# Altium footprint library Altium LCOGT PCB LIB.PCBLIB: 329 footprints (part 9 of 21)
Each footprint in its own frame and in the unit in brackets; x right, y up, seen from the top. Pads: shape width x height; smd on the part's side, far side on the other; paste and mask are expansions set on the pad; w line width, h text height; cw(c..) or ccw(c..) is an arc to the next point about the centre after c.
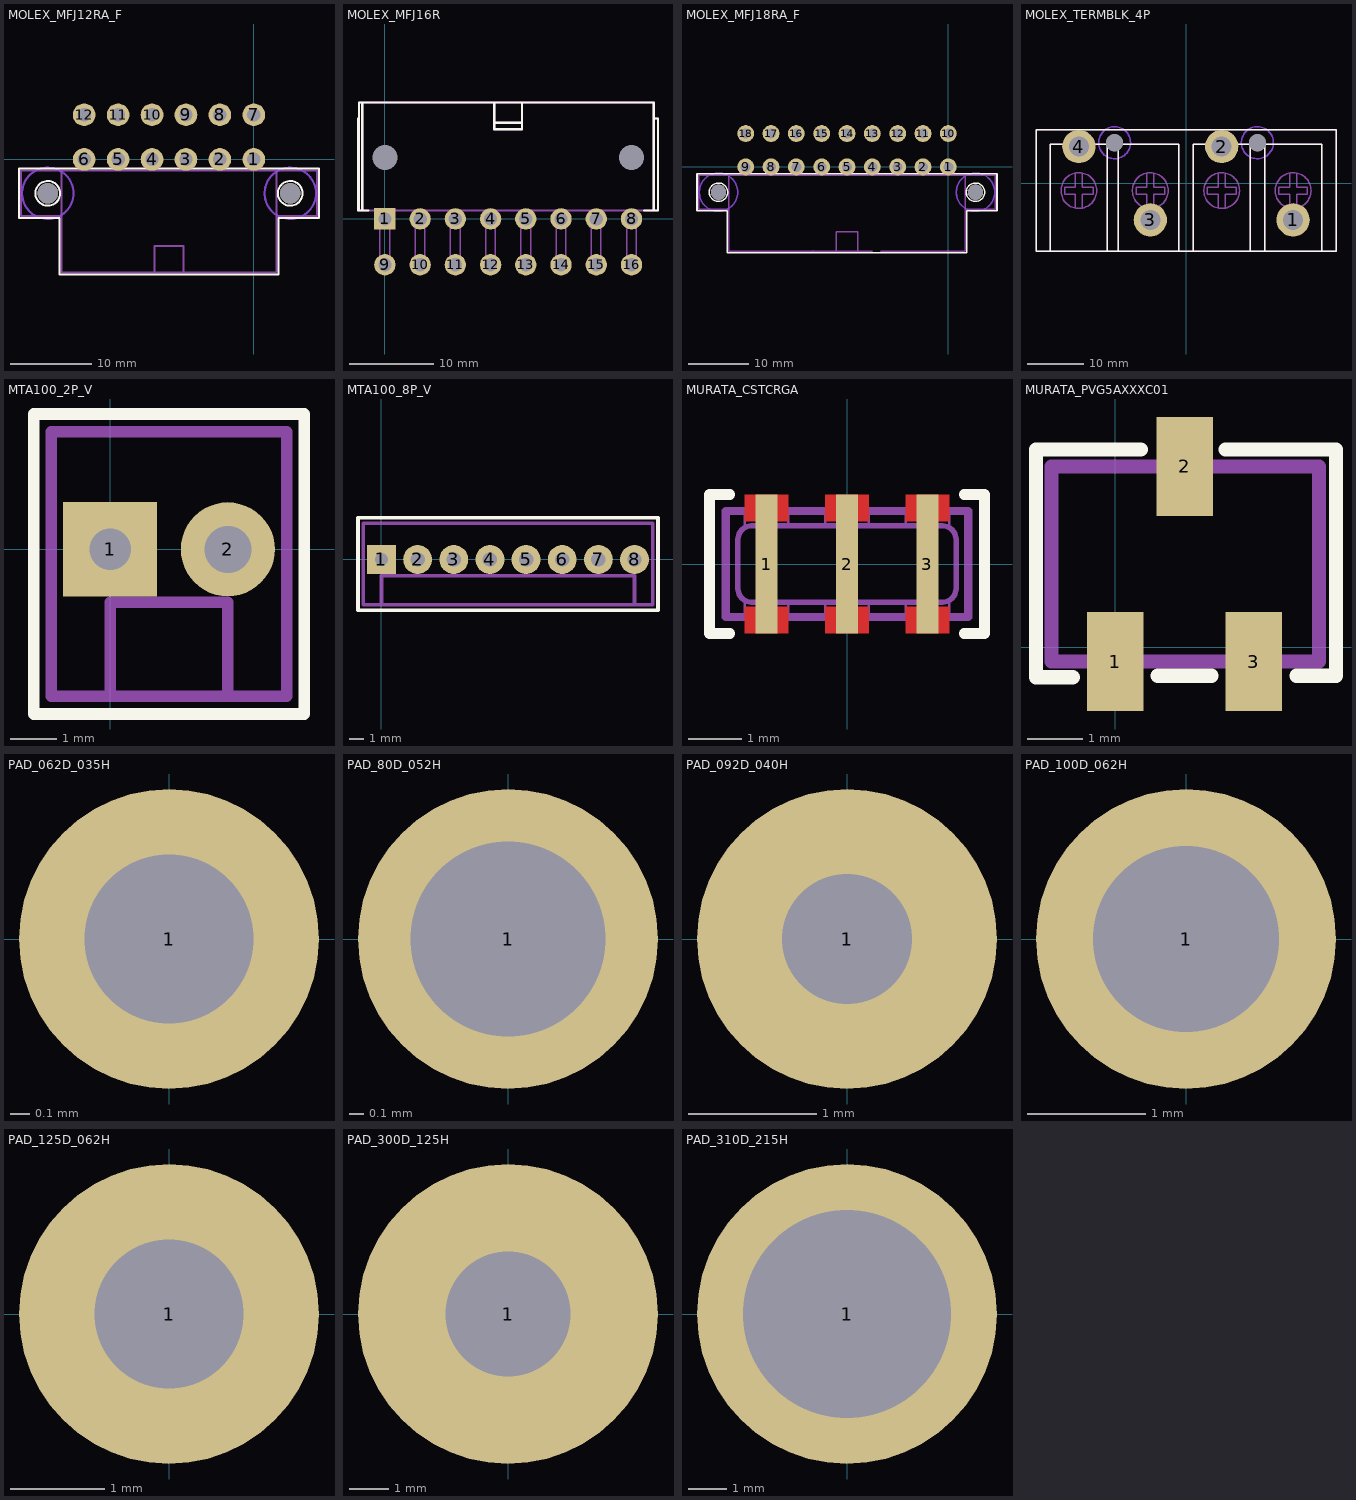
[diagram p8: the footprints below, top view; thin cyan lines are the x and y axes]

## MOLEX_MFJ12RA_F [mil] "Mini-Fit Jr., 12P, R/A, flanged, 39-29-X12X"
height 394
pads (14):
  round 110 hole 65: 1(0,0) 2(-165,0) 3(-330,0) 4(-495,0) 5(-660,0) 6(-825,0) 7(0,217) 8(-165,217) 9(-330,217) 10(-495,217) 11(-660,217) 12(-825,217)
  round 100 hole 100 unplated: ""(-1002,-165) ""(177,-165)
BottomLayer keep-out:
  circle w10: c-1002,-165 r125
  circle w10: c177,-165 r125
TopOverlay:
  circle w10: c177,-165 r60
  circle w10: c-1002,-165 r60
  lines w10: -647,-44 317,-44 317,-286 120,-286 120,-560 -450,-560 ; -375,-560 -945,-560 -945,-286 -1142,-286 -1142,-44 -178,-44
Mechanical3:
  lines w10: -935,-276 -1132,-276 -1132,-54 -935,-54 ; -482.5,-550 -482.5,-421 -342.5,-421 -342.5,-550 ; -440,-550 0,-550 106,-550 110,-546 110,-54 ; -440,-54 110,-54 ; -389,-550 -495,-550 -935,-550 -935,-54 ; -385,-54 -935,-54 ; 110,-276 307,-276 307,-54 110,-54

## MOLEX_MFJ16R [mil]
pads (18):
  rect 100x100 hole 62: 1(0,0)
  round 100 hole 62: 2(165,0) 3(330,0) 4(495,0) 5(660,0) 6(825,0) 7(990,0) 8(1155,0) 9(0,-215) 10(165,-215) 11(330,-215) 12(495,-215) 13(660,-215) 14(825,-215) 15(990,-215) 16(1155,-215)
  round 30 hole 118 unplated: ""(0,287) ""(1155,287)
TopOverlay:
  lines w10: -121,40 -121,545 1259,545 1259,40 ; -121,470 -126,470 -126,40 -76,40 ; -106,40 -106,545 ; 512,450 642,450 ; 512,545 512,420 642,420 642,545 ; 1214,40 1279,40 1279,470 1259,470
Mechanical3:
  lines w6: -23,40 -23,-237 22,-237 22,40 ; 142,40 142,-237 187,-237 187,40 ; 307,40 307,-237 352,-237 352,40 ; 472,40 472,-237 517,-237 517,40 ; 637,40 637,-237 682,-237 682,40 ; 802,40 802,-237 847,-237 847,40 ; 967,40 967,-237 1012,-237 1012,40 ; 1132,40 1132,-237 1177,-237 1177,40
  lines w10: -121,40 -121,545 1259,545 1259,40 ; -121,470 -126,470 -126,40 1279,40 1279,470 1259,470 ; -106,40 -106,545 ; 512,450 642,450 ; 512,545 512,420 642,420 642,545

## MOLEX_MFJ18RA_F [mil] "Mini-Fit Jr., 18P, R/A, flanged, 39-29-X18X"
height 394
pads (20):
  round 110 hole 65: 1(0,0) 2(-165,0) 3(-330,0) 4(-495,0) 5(-660,0) 6(-825,0) 7(-990,0) 8(-1155,0) 9(-1320,0) 10(0,217) 11(-165,217) 12(-330,217) 13(-495,217) 14(-660,217) 15(-825,217) 16(-990,217) 17(-1155,217) 18(-1320,217)
  round 100 hole 100 unplated: ""(-1497,-165) ""(177,-165)
BottomLayer keep-out:
  circle w10: c177,-165 r125
  circle w10: c-1497,-165 r125
TopOverlay:
  circle w10: c177,-165 r60
  circle w10: c-1497,-165 r60
  lines w10: -1142,-44 -178,-44 ; -945,-560 -375,-560 ; -870,-560 -1440,-560 -1440,-286 -1637,-286 -1637,-44 -673,-44 ; -647,-44 317,-44 317,-286 120,-286 120,-560 -450,-560
Mechanical3:
  lines w10: -1430,-276 -1627,-276 -1627,-54 -1430,-54 ; -1132,-54 -935,-54 -385,-54 ; -935,-550 -495,-550 ; -880,-546 -884,-550 -990,-550 -1430,-550 -1430,-54 ; -742.5,-550 -636.5,-550 ; -730,-550 -730,-421 -590,-421 -590,-550 ; -683,-54 -880,-54 -1430,-54 ; -440,-550 0,-550 106,-550 110,-546 110,-54 ; -440,-54 110,-54 ; 110,-276 307,-276 307,-54 110,-54

## MOLEX_TERMBLK_4P [mil]
pads (6):
  round 233 hole 140: 1(750,-256.5) 2(250,256.5) 3(-250,-256.5) 4(-750,256.5)
  round 120 hole 120 unplated: ""(-500,283.5) ""(500,283.5)
BottomLayer keep-out:
  circle w10: c-500,283.5 r112
  circle w10: c500,283.5 r112
TopOverlay:
  lines w10: -950,-476.5 -950,273.5 -550,273.5 -550,-476.5 ; -475,-476.5 -475,273.5 -50,273.5 -50,-476.5 ; 50,-476.5 50,273.5 450,273.5 450,-476.5 ; 550,-476.5 550,273.5 950,273.5 950,-476.5 ; -1050,-476.5 1050,-476.5 1050,373.5 -1050,373.5 -1050,-476.5
Mechanical3:
  circle w10: c750,-51.5 r125
  circle w10: c250,-51.5 r125
  circle w10: c-250,-51.5 r125
  circle w10: c-750,-51.5 r125
  lines w10: -950,-476.5 -950,273.5 -550,273.5 -550,-476.5 -475,-476.5 -475,273.5 -50,273.5 -50,-476.5 50,-476.5 50,273.5 450,273.5 450,-476.5 550,-476.5 550,273.5 950,273.5 950,-476.5 ; -775,-176.5 -775,-76.5 -850,-76.5 -850,-26.5 -775,-26.5 -775,73.5 ; -725,-176.5 -725,-76.5 -650,-76.5 -650,-26.5 -725,-26.5 -725,73.5 ; -275,-176.5 -275,-76.5 -350,-76.5 -350,-26.5 -275,-26.5 -275,73.5 ; -225,-176.5 -225,-76.5 -150,-76.5 -150,-26.5 -225,-26.5 -225,73.5 ; 225,-176.5 225,-76.5 150,-76.5 150,-26.5 225,-26.5 225,73.5 ; 275,-176.5 275,-76.5 350,-76.5 350,-26.5 275,-26.5 275,73.5 ; 725,-176.5 725,-76.5 650,-76.5 650,-26.5 725,-26.5 725,73.5 ; 775,-176.5 775,-76.5 850,-76.5 850,-26.5 775,-26.5 775,73.5 ; -1050,-476.5 -1050,373.5 0,373.5 1050,373.5 1050,-476.5 -1050,-476.5

## MTA100_2P_V [mil]
pads (2):
  rect 80x80 hole 35: 1(0,0)
  round 80 hole 40: 2(100,0)
TopOverlay:
  lines w10: -65,-140 165,-140 165,115 -65,115 -65,-140
Mechanical3:
  lines w5: -12.5,-12.5 12.5,-12.5 12.5,12.5 0,12.5 -12.5,12.5 -12.5,-12.5 ; 87.5,-12.5 87.5,12.5 100,12.5 112.5,12.5 112.5,-12.5 87.5,-12.5
  lines w10: 100,-125 100,-45 0,-45 0,-125 ; 0,-125 150,-125 150,100 -50,100 -50,-125 0,-125

## MTA100_8P_V [mil]
pads (8):
  rect 80x80 hole 35: 1(0,0)
  round 80 hole 40: 2(100,0) 3(200,0) 4(300,0) 5(400,0) 6(500,0) 7(600,0) 8(700,0)
TopOverlay:
  lines w10: -65,-140 -65,115 765,115 765,-140 -65,-140
Mechanical3:
  lines w5: -12.5,-12.5 12.5,-12.5 12.5,12.5 0,12.5 -12.5,12.5 -12.5,-12.5 ; 87.5,-12.5 87.5,12.5 100,12.5 112.5,12.5 112.5,-12.5 87.5,-12.5 ; 187.5,-12.5 187.5,12.5 200,12.5 212.5,12.5 212.5,-12.5 187.5,-12.5 ; 287.5,-12.5 287.5,12.5 300,12.5 312.5,12.5 312.5,-12.5 287.5,-12.5 ; 387.5,-12.5 387.5,12.5 400,12.5 412.5,12.5 412.5,-12.5 387.5,-12.5 ; 487.5,-12.5 487.5,12.5 500,12.5 512.5,12.5 512.5,-12.5 487.5,-12.5 ; 587.5,-12.5 587.5,12.5 600,12.5 612.5,12.5 612.5,-12.5 587.5,-12.5 ; 687.5,-12.5 687.5,12.5 700,12.5 712.5,12.5 712.5,-12.5 687.5,-12.5
  lines w10: 700,-125 700,-45 0,-45 0,-125 ; 0,-125 750,-125 750,100 -50,100 -50,-125 0,-125
3D body: height 395, standoff -140, extent -50,-125 750,105

## MURATA_CSTCRGA [mil]
pads (3):
  rect 16x102 smd: 1(-59.05,0) 2(0,0) 3(59.05,0)
TopLayer:
  rectangle: -75.06,31 -43.06,51
  region: -43.06,-31 -75.06,-31 -75.06,-51 -43.06,-51
  rectangle: 43.06,31 75.06,51
  region: 75.06,-31 43.06,-31 43.06,-51 75.06,-51
  rectangle: -16,31 16,51
  region: 16,-31 -16,-31 -16,-51 16,-51
TopOverlay:
  lines w8: -86,-51 -101,-51 -101,51 -86,51 ; 86,-51 101,-51 101,51 86,51
TopPaste:
  rectangle: -75.06,31 -43.06,51
  rectangle: -75.06,-51 -43.06,-31
  rectangle: 43.06,31 75.06,51
  rectangle: 43.06,-51 75.06,-31
  rectangle: -16,31 16,51
  rectangle: -16,-51 16,-31
TopSolder:
  rectangle: -78.06,28 -40.06,54
  rectangle: -78.06,-54 -40.06,-28
  rectangle: 40.06,28 78.06,54
  rectangle: 40.06,-54 78.06,-28
  rectangle: -19,28 19,54
  rectangle: -19,-54 19,-28
Mechanical3:
  lines w2: -75.06,-39 -75.06,-28 ; -75.06,28 -75.06,39 ; -43.06,-39 -43.06,-28 ; -43.06,28 -43.06,39 ; -16,-39 -16,-28 ; -16,28 -16,39 ; 16,-39 16,-28 ; 16,28 16,39 ; 43.06,-39 43.06,-28 ; 43.06,28 43.06,39 ; 75.06,-39 75.06,-28 ; 75.06,28 75.06,39
  lines w4: -80,-18 ccw(c-70,-18) -70,-28 70,-28 ccw(c70,-18) 80,-18 80,18 ccw(c70,18) 70,28 -70,28 ccw(c-70,18) -80,18 -80,-18
  lines w6: -89,-39 -89,39 -67.06,39 ccw(c-59.06,39) -51.06,39 -8,39 ccw(c0,39) 8,39 51.06,39 ccw(c59.06,39) 67.06,39 89,39 89,-39 67.06,-39 ccw(c59.06,-39) 51.06,-39 8,-39 ccw(c0,-39) -8,-39 -51.06,-39 ccw(c-59.06,-39) -67.06,-39 -89,-39

## MURATA_PVG5AXXXC01 [mil] "Multi-turn Trimpot, Top Adj."
height 197
pads (3):
  rect 40x70 smd: 1(0,-10) 2(49,128) 3(98,-10)
TopOverlay:
  lines w10: -30,-21 -56,-21 -56,140 18,140 ; 30,-20 68,-20 ; 78,140 156,140 156,138 156,-20 154,-20 128,-20
Mechanical3:
  lines w10: -45,-10 -45,128 144,128 144,-10 -45,-10

## NI_777601-01V [mil]

## PAD_062D_035H [mil]
pads (1):
  round 62 hole 35: 1(0,0)

## PAD_80D_052H [mil]
pads (1):
  round 80 hole 52: 1(0,0)

## PAD_092D_040H [mil]
pads (1):
  round 92 hole 40: 1(0,0)

## PAD_100D_062H [mil]
pads (1):
  round 100 hole 62: 1(0,0)

## PAD_125D_062H [mil]
pads (1):
  round 125 hole 62: 1(0,0)

## PAD_300D_125H [mil]
pads (1):
  round 300 hole 125: 1(0,0)

## PAD_310D_215H [mil]
pads (1):
  round 310 hole 215: 1(0,0)